# Altium schematic symbol library Capacitors-1206.SchLib: 1 symbol
Pins are listed as number, name and electrical type; pins without a type are passive.

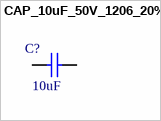
[diagram p0: symbol CAP_10uF_50V_1206_20%]

## CAP_10uF_50V_1206_20%
designator C?, comment value 10uF  (hidden comment: 10uF 50V 1206)
10uF 50V 20% 1206 (3216 Metric); PartNumber: UMK316BBJ106ML-T; Manufacturer: Taiyo Yuden; Mounting Technology: Surface Mount; PackageReference: 1206; PackageDescription: 1206 (3216 Metric); Voltage: 50V; Tolerance: 20%
footprint C1206[3216X160] (Chip Capacitor, Body 3.2x1.6mm)
pins: 1, 2